# Altium footprint library My_PCB.PcbLib: 30 footprints (part 2 of 2)
Each footprint in its own frame and in the unit in brackets; x right, y up, seen from the top. Pads: shape width x height; smd on the part's side, far side on the other; paste and mask are expansions set on the pad; w line width, h text height; cw(c..) or ccw(c..) is an arc to the next point about the centre after c.
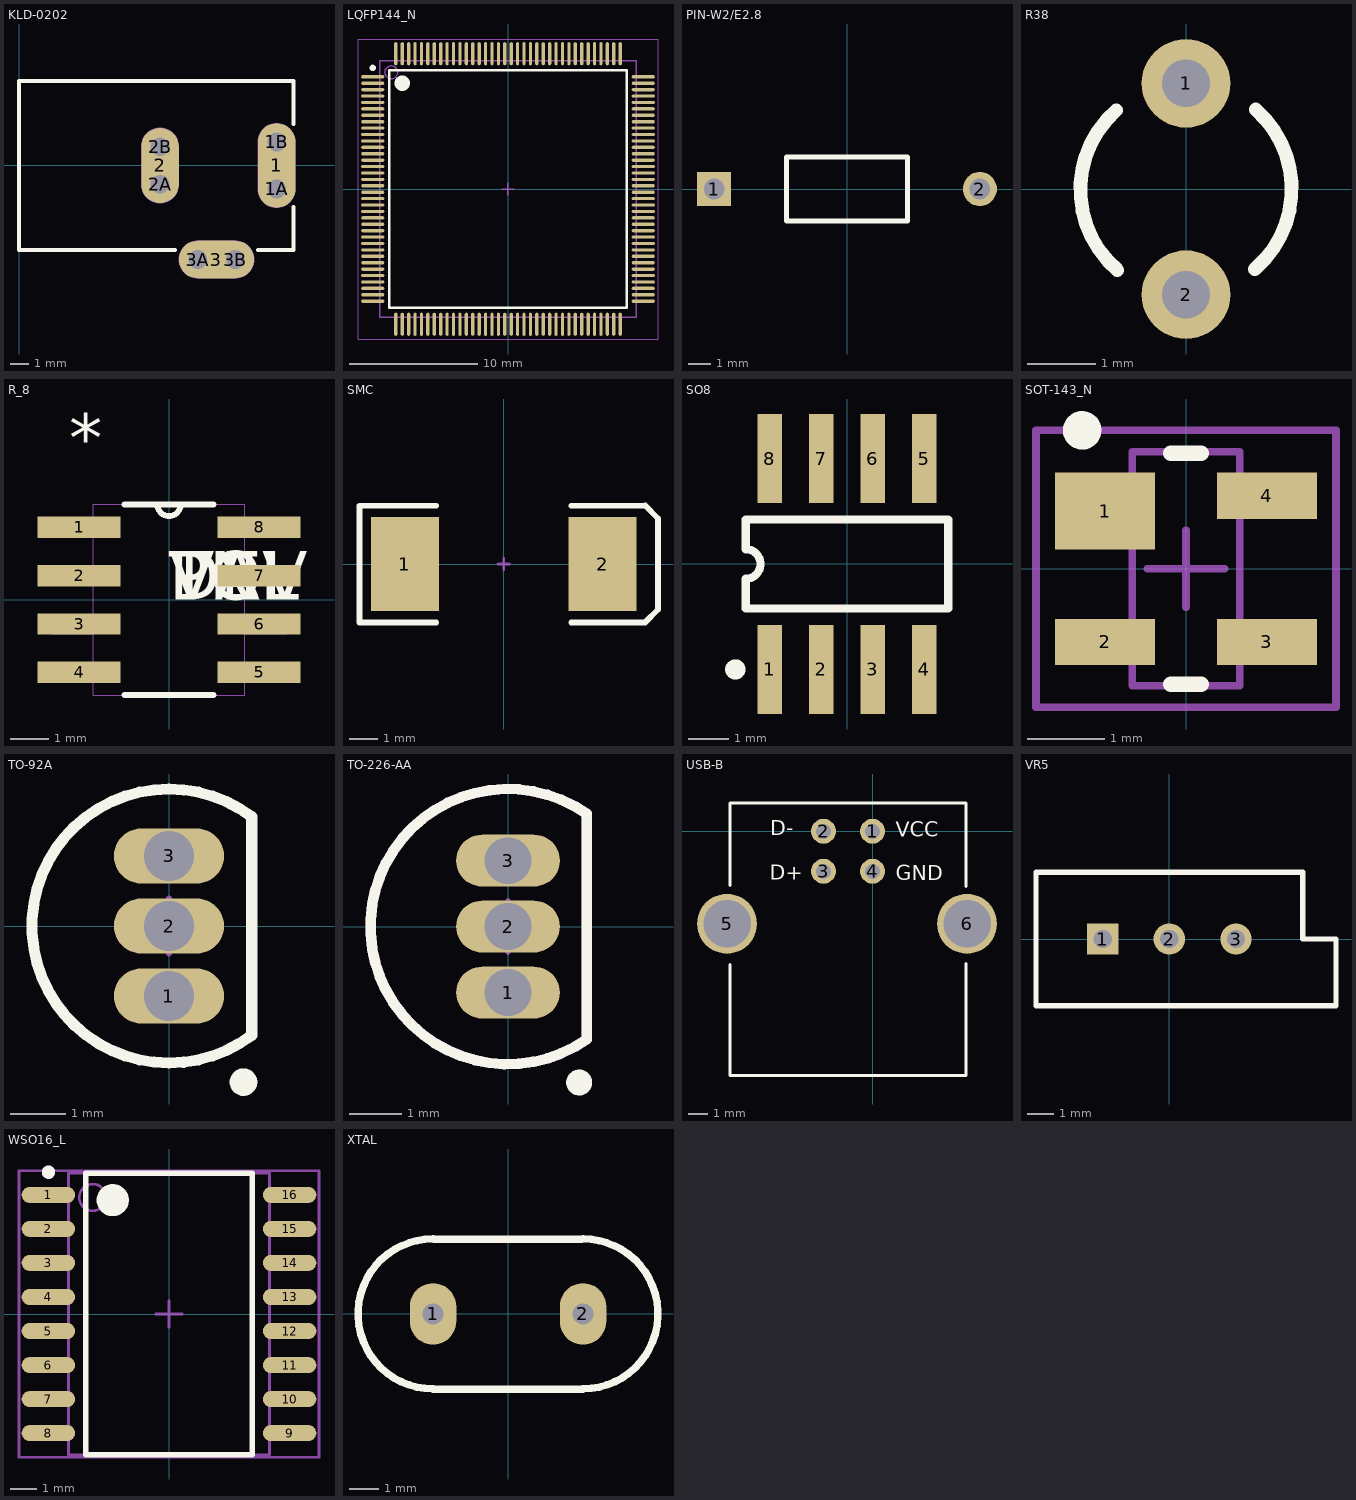
[diagram p1: the footprints below, top view; thin cyan lines are the x and y axes]

## KLD-0202 [mm] "DC Power Jack, 2.5mm, KLD Series, PCB Mount"
pads (9):
  oval 2x4.5 all layers, no hole: 1(13.7,0)
  round 1.5 hole 1: 1A(13.7,-1.25) 1B(13.7,1.25) 2A(7.5,-1) 2B(7.5,1) 3A(9.5,-5) 3B(11.5,-5)
  oval 2x4 all layers, no hole: 2(7.5,0)
  oval 4x2 all layers, no hole: 3(10.5,-5)
Top Overlay:
  lines w0.203: 8.3,-4.5 0,-4.5 0,4.5 14.6,4.5 14.6,2.2 ; 12.7,-4.5 14.6,-4.5 14.6,-2.2
Mechanical 1:
  lines w1: 7.5,-1 7.5,1 ; 9.5,-5 11.5,-5 ; 13.7,-1.25 13.7,1.25
Mechanical 2:
  lines w2.016: 7.5,-1 7.5,1 ; 9.5,-5 11.5,-5 ; 13.7,-1.25 13.7,1.25

## LQFP144_N [mm] "Thin QFP, 144-Leads, Body 20x20mm, Pitch 0.5mm, IPC Medium Density"
height 1.6
pads (144):
  oval 1.8x0.254 smd: 1(-10.55,8.75) 2(-10.55,8.25) 3(-10.55,7.75) 4(-10.55,7.25) 5(-10.55,6.75) 6(-10.55,6.25) 7(-10.55,5.75) 8(-10.55,5.25) 9(-10.55,4.75) 10(-10.55,4.25) 11(-10.55,3.75) 12(-10.55,3.25) 13(-10.55,2.75) 14(-10.55,2.25) 15(-10.55,1.75) 16(-10.55,1.25) 17(-10.55,0.75) 18(-10.55,0.25) 19(-10.55,-0.25) 20(-10.55,-0.75) 21(-10.55,-1.25) 22(-10.55,-1.75) 23(-10.55,-2.25) 24(-10.55,-2.75) 25(-10.55,-3.25) 26(-10.55,-3.75) 27(-10.55,-4.25) 28(-10.55,-4.75) 29(-10.55,-5.25) 30(-10.55,-5.75) 31(-10.55,-6.25) 32(-10.55,-6.75) 33(-10.55,-7.25) 34(-10.55,-7.75) 35(-10.55,-8.25) 36(-10.55,-8.75) 73(10.55,-8.75) 74(10.55,-8.25) 75(10.55,-7.75) 76(10.55,-7.25) 77(10.55,-6.75) 78(10.55,-6.25) 79(10.55,-5.75) 80(10.55,-5.25) 81(10.55,-4.75) 82(10.55,-4.25) 83(10.55,-3.75) 84(10.55,-3.25) 85(10.55,-2.75) 86(10.55,-2.25) 87(10.55,-1.75) 88(10.55,-1.25) 89(10.55,-0.75) 90(10.55,-0.25) 91(10.55,0.25) 92(10.55,0.75) 93(10.55,1.25) 94(10.55,1.75) 95(10.55,2.25) 96(10.55,2.75) 97(10.55,3.25) 98(10.55,3.75) 99(10.55,4.25) 100(10.55,4.75) 101(10.55,5.25) 102(10.55,5.75) 103(10.55,6.25) 104(10.55,6.75) 105(10.55,7.25) 106(10.55,7.75) 107(10.55,8.25) 108(10.55,8.75)
  oval 0.254x1.8 smd: 37(-8.75,-10.55) 38(-8.25,-10.55) 39(-7.75,-10.55) 40(-7.25,-10.55) 41(-6.75,-10.55) 42(-6.25,-10.55) 43(-5.75,-10.55) 44(-5.25,-10.55) 45(-4.75,-10.55) 46(-4.25,-10.55) 47(-3.75,-10.55) 48(-3.25,-10.55) 49(-2.75,-10.55) 50(-2.25,-10.55) 51(-1.75,-10.55) 52(-1.25,-10.55) 53(-0.75,-10.55) 54(-0.25,-10.55) 55(0.25,-10.55) 56(0.75,-10.55) 57(1.25,-10.55) 58(1.75,-10.55) 59(2.25,-10.55) 60(2.75,-10.55) 61(3.25,-10.55) 62(3.75,-10.55) 63(4.25,-10.55) 64(4.75,-10.55) 65(5.25,-10.55) 66(5.75,-10.55) 67(6.25,-10.55) 68(6.75,-10.55) 69(7.25,-10.55) 70(7.75,-10.55) 71(8.25,-10.55) 72(8.75,-10.55) 109(8.75,10.55) 110(8.25,10.55) 111(7.75,10.55) 112(7.25,10.55) 113(6.75,10.55) 114(6.25,10.55) 115(5.75,10.55) 116(5.25,10.55) 117(4.75,10.55) 118(4.25,10.55) 119(3.75,10.55) 120(3.25,10.55) 121(2.75,10.55) 122(2.25,10.55) 123(1.75,10.55) 124(1.25,10.55) 125(0.75,10.55) 126(0.25,10.55) 127(-0.25,10.55) 128(-0.75,10.55) 129(-1.25,10.55) 130(-1.75,10.55) 131(-2.25,10.55) 132(-2.75,10.55) 133(-3.25,10.55) 134(-3.75,10.55) 135(-4.25,10.55) 136(-4.75,10.55) 137(-5.25,10.55) 138(-5.75,10.55) 139(-6.25,10.55) 140(-6.75,10.55) 141(-7.25,10.55) 142(-7.75,10.55) 143(-8.25,10.55) 144(-8.75,10.55)
Top Overlay:
  circle w0.25: c-10.55,9.45 r0.125
  circle w0.6: c-8.25,8.25 r0.3
  lines w0.203: -9.25,-9.25 -9.25,9.25 9.25,9.25 9.25,-9.25 -9.25,-9.25
Mechanical 13:
  circle w0.1: c-9.1,9.1 r0.5
  lines w0.1: -10,-10 -10,10 10,10 10,-10 -10,-10
Mechanical 15:
  lines w0.05: -11.7,-11.7 -11.7,11.7 11.7,11.7 11.7,-11.7 -11.7,-11.7
  lines w0.1: -0.5,0 0.5,0 ; 0,-0.5 0,0.5
3D body: height 1.6, standoff 0, extent -10,-10 10,10

## PIN-W2/E2.8 [mm] "Thru-Hole; 2 Leads"
pads (2):
  rect 1.5x1.5 hole 0.9: 1(-5.825,0)
  round 1.5 hole 0.9: 2(5.825,0)
Top Overlay:
  lines w0.203: -2.65,-1.4 -2.65,1.4 2.65,1.4 2.65,-1.4 -2.65,-1.4

## R38 [mm] "Crystal, Thru-Hole; 2 Leads; Body 3.1 x 8.2 mm (Dia.xH)"
height 8.2
pads (2):
  round 1.3 hole 0.7: 1(0,1.55) 2(0,-1.55)
Top Overlay:
  lines w0.2: -1.022,1.155 ccw(c0,-0.01) -1.006,-1.189 ; 1.006,-1.179 ccw(c0,0) 1.022,1.165

## R_8 [mil]
pads (8):
  rect 86x22 smd: 1(-93,75) 2(-93,25) 3(-93,-25) 4(-93,-75) 5(93,-75) 6(93,-25) 7(93,25) 8(93,75)
Top Overlay:
  lines w6: -46.08,-98.5 46.08,-98.5 ; -46.08,98.5 46.08,98.5 ; -12,98.5 ccw(c0,98.5) 12,98.5
  text "*" at -103,142 h50
  text "PN" at 0,0 h50
  text "DEV" at 0,0 h50
  text "VAL" at 0,0 h50
  text "TOL" at 0,0 h50
Mechanical 1:
  lines w0: -12,98.5 ccw(c0,98.5) 12,98.5 ; -122,-85 -122,-65 -78.5,-65 -78.5,-85 -122,-85 ; -122,-35 -122,-15 -78.5,-15 -78.5,-35 -122,-35 ; -122,15 -122,35 -78.5,35 -78.5,15 -122,15 ; -122,65 -122,85 -78.5,85 -78.5,65 -122,65 ; -78.5,-98.5 78.5,-98.5 78.5,98.5 -78.5,98.5 -78.5,-98.5 ; 78.5,-85 78.5,-65 122,-65 122,-85 78.5,-85 ; 78.5,-35 78.5,-15 122,-15 122,-35 78.5,-35 ; 78.5,15 78.5,35 122,35 122,15 78.5,15 ; 78.5,65 78.5,85 122,85 122,65 78.5,65
  text "*" at -103,142 h50
  text "RefDes2" at -140,-100 h50

## SMC [mm] "DO-214-AB/SMC; 2 C-Bend Leads; Body 7.9 x 5.9 mm, inc. leads (LxW)"
height 2.65
pads (2):
  rect 2.4x3.3 smd: 1(-3.475,0) 2(3.475,0)
Top Overlay:
  lines w0.203: -2.375,-2.05 -5.075,-2.05 -5.075,2.05 -2.375,2.05 ; 2.375,-2.05 4.975,-2.05 5.425,-1.6 5.425,1.6 4.975,2.055 ; 2.375,2.05 4.975,2.05
Mechanical 1:
  lines w0.1: -0.2,0 0.2,0 ; 0,-0.2 0,0.2

## SO8 [mm]
height 1.75
pads (8):
  rect 0.6x2.2 smd: 1(-1.905,-2.6) 2(-0.635,-2.6) 3(0.635,-2.6) 4(1.905,-2.6) 5(1.905,2.6) 6(0.635,2.6) 7(-0.635,2.6) 8(-1.905,2.6)
Top Overlay:
  circle w0.25: c-2.755,-2.6 r0.125
  lines w0.2: -2.5,-0.367 ccw(c-2.5,0) -2.5,0.367
  lines w0.203: -2.5,-0.367 -2.5,-1.1 2.5,-1.1 2.5,1.1 -2.5,1.1 -2.5,0.367

## SOT-143_N [mm] "SOT143, 4-Leads, Body 2.9x1.3mm, Pitch 1.9mm, Lead Span 2.5mm, IPC Medium Density"
height 1.1
pads (4):
  rect 1.3x1 smd: 1(-1.05,0.75)
  rect 1.3x0.6 smd: 2(-1.05,-0.95) 3(1.05,-0.95) 4(1.05,0.95)
Top Overlay:
  circle w0.25: c-1.35,1.8 r0.125
  lines w0.203: -0.2,-1.5 0.2,-1.5 ; -0.2,1.5 0.2,1.5
Mechanical 13:
  lines w0.1: -0.7,-1.52 -0.7,1.52 0.7,1.52 0.7,-1.52 -0.7,-1.52
Mechanical 15:
  lines w0.1: -0.5,0 0.5,0 ; 0,-0.5 0,0.5 ; -1.95,-1.8 -1.95,1.8 1.95,1.8 1.95,-1.8 -1.95,-1.8
3D body: height 1.1, standoff 0, extent -0.7,-1.52 0.7,1.52

## TO-92A [mm] "TO, Flat Index; 3 In-Line, Axial Leads; Body Dia. 4.5mm; Leads 0.51 x 0.48 mm (max)"
height 6.86
pads (3):
  oval 2x1 hole 0.9: 1(0,-1.27) 2(0,0) 3(0,1.27)
Top Overlay:
  circle w0.25: c1.35,-2.83 r0.125
  lines w0.2: 1.5,-1.98 cw(c0,0) 1.5,1.98
  lines w0.203: 1.5,-1.98 1.5,1.98
Mechanical 13:
  lines w0.1: 1.5,-1.98 cw(c0,0) 1.5,1.98 1.5,-1.98
Mechanical 15:
  lines w0.1: -0.5,0 0.5,0 ; 0,-0.5 0,0.5
3D body: height 6.86, standoff 2.2, extent -2.497,-2.497 1.501,2.497

## TO-226-AA [mm] "TO, Flat Index; 3 In-Line, Axial Leads; Body Dia. 4.8mm; Leads 0.55 x 0.51 mm (max)"
height 5.33
pads (3):
  oval 2x1 hole 0.9: 1(0,-1.27) 2(0,0) 3(0,1.27)
Top Overlay:
  circle w0.25: c1.371,-3.003 r0.125
  lines w0.2: 1.52,-2.171 cw(c0,0) 1.52,2.171
  lines w0.203: 1.52,-2.171 1.52,2.171
Mechanical 13:
  lines w0.2: 1.52,-2.171 cw(c0,0) 1.52,2.171
  lines w0.203: 1.52,-2.171 1.52,2.171
Mechanical 15:
  lines w0.1: -0.5,0 0.5,0 ; 0,-0.5 0,0.5
3D body: height 5.33, standoff 0, extent -2.659,-2.659 1.523,2.659

## USB-B [mil]
pads (6):
  round 50 hole 30: 1(0,0) 2(-98,0) 3(-98,-80) 4(0,-80)
  round 120 hole 95: 5(-291,-185) 6(189,-185)
Top Overlay:
  lines w6: -285,-266.5 -285,-488 187,-488 187,-264.5 ; -285,-108.5 -285,57 187,57 187,-110.5
  text "VCC" at 46,-11 h30
  text "D-" at -205,-8 h30
  text "D+" at -206,-97 h30
  text "GND" at 46,-98 h30

## VR5 [mm] "Thru-Hole; 3 Leads"
pads (3):
  rect 1.2x1.2 hole 0.7: 1(-2.54,0)
  round 1.2 hole 0.7: 2(0,0) 3(2.54,0)
Top Overlay:
  lines w0.203: -5.08,-2.54 -5.08,2.54 5.08,2.54 5.08,0 6.35,0 6.35,-2.54 -5.08,-2.54

## WSO16_L [mm] "SOIC, 16-Leads, Body 10.3x7.5mm, Pitch 1.27mm, IPC High Density"
height 2.65
pads (16):
  oval 2x0.6 smd: 1(-4.5,4.445) 2(-4.5,3.175) 3(-4.5,1.905) 4(-4.5,0.635) 5(-4.5,-0.635) 6(-4.5,-1.905) 7(-4.5,-3.175) 8(-4.5,-4.445) 9(4.5,-4.445) 10(4.5,-3.175) 11(4.5,-1.905) 12(4.5,-0.635) 13(4.5,0.635) 14(4.5,1.905) 15(4.5,3.175) 16(4.5,4.445)
Top Overlay:
  circle w0.25: c-4.5,5.295 r0.125
  circle w0.6: c-2.1,4.25 r0.3
  lines w0.203: -3.1,-5.25 -3.1,5.25 3.1,5.25 3.1,-5.25 -3.1,-5.25
Mechanical 13:
  circle w0.1: c-2.85,4.35 r0.5
  lines w0.1: -3.75,-5.25 -3.75,5.25 3.75,5.25 3.75,-5.25 -3.75,-5.25
Mechanical 15:
  lines w0.1: -0.5,0 0.5,0 ; 0,-0.5 0,0.5 ; -5.6,-5.35 -5.6,5.35 5.6,5.35 5.6,-5.35 -5.6,-5.35
3D body: height 2.65, standoff 0, extent -3.75,-5.25 3.75,5.25

## XTAL [mil]
pads (2):
  oval 62x82 hole 28: 1(-100,0) 2(100,0)
Top Overlay:
  lines w10: -100,-100.39 99.8,-100.39 ; -100,-100 cw(c-100,0) -100,100 ; -99.02,99.41 98.62,99.37 ; 100,-100 ccw(c100,0) 100,100